# EAGLE library part AE45131H-720 (library saw-filters-narrowband)
AE45131H-720 Параметр Ед. изм. Мин. значение Тип. значение Макс. значение Центральная частота МГц 719 720 721 Минимальное вносимое затухание дБ - 2.1 2.5 Полоса среза по уровню -2 дБ МГц 19 19.3 - Полоса среза по уровню -35 дБ МГц - 91 - Неравномерность АЧХ дБ - 1 2 Групповое время задержки нс - - - Гарантированное затухание дБ - 45 - Температурный диапазон °C -55 22 +85 Материал подложки - - Танталат лития 36 -
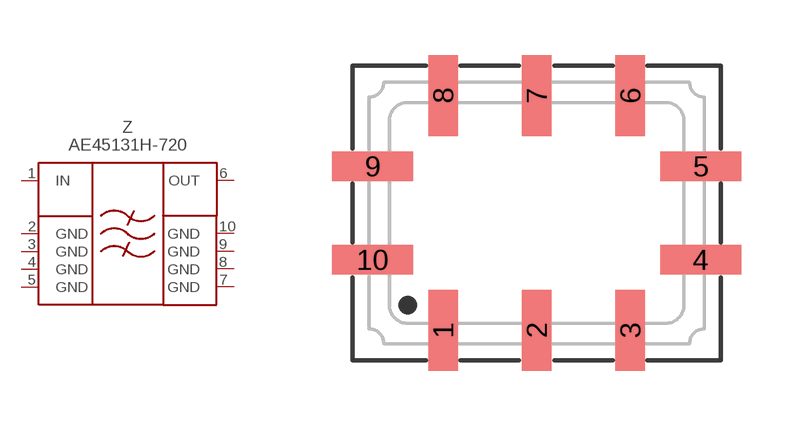
[diagram p154: symbol with the pads of QCC10-1; footprint QCC10-1]

Designator prefix Z

## AE45131H-720  [QCC10-1]
1  IN  in
2  GND  pwr
3  GND  pwr
4  GND  pwr
5  GND  pwr
6  OUT  out
7  GND  pwr
8  GND  pwr
9  GND  pwr
10  GND  pwr

## Footprint QCC10-1 (pad centres in mm)
smd 0.8 x 2.2: 1 -2.54,-3.185; 2 0,-3.185; 3 2.54,-3.185; 6 2.54,3.185; 7 0,3.185; 8 -2.54,3.185
smd 2.2 x 0.8: 4 4.455,-1.27; 5 4.455,1.27; 9 -4.455,1.27; 10 -4.455,-1.27